# EAGLE library part DRV8706H (library pimoroni-ics)
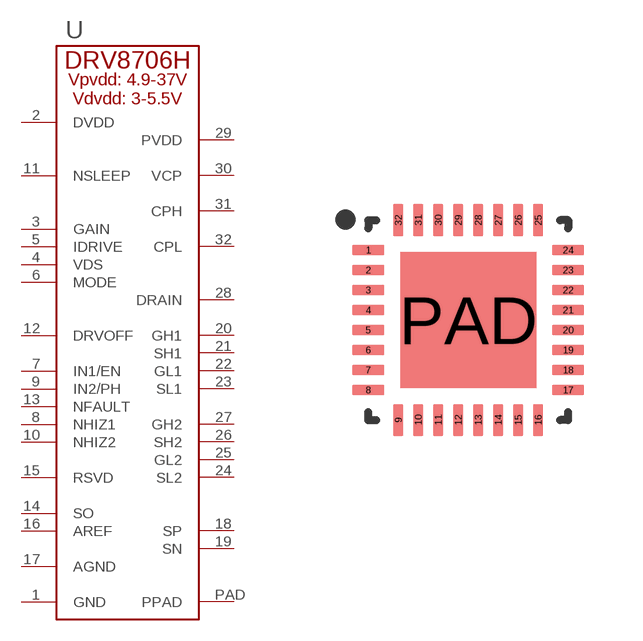
[diagram p155: symbol with the pads of QFN-32; footprint QFN-32]

Designator prefix U

## DRV8706H  [QFN-32]
1  GND
2  DVDD
3  GAIN
4  VDS
5  IDRIVE
6  MODE
7  IN1/EN
8  NHIZ1
9  IN2/PH
10  NHIZ2
11  NSLEEP
12  DRVOFF
13  NFAULT
14  SO
15  RSVD
16  AREF
17  AGND
18  SP
19  SN
20  GH1
21  SH1
22  GL1
23  SL1
24  SL2
25  GL2
26  SH2
27  GH2
28  DRAIN
29  PVDD
30  VCP
31  CPH
32  CPL
PAD  PPAD

## Footprint QFN-32 (pad centres in mm)
smd 0.8 x 0.25: 1 -2.5,1.75; 2 -2.5,1.25; 3 -2.5,0.75; 4 -2.5,0.25; 5 -2.5,-0.25; 6 -2.5,-0.75; 7 -2.5,-1.25; 8 -2.5,-1.75; 17 2.5,-1.75; 18 2.5,-1.25; 19 2.5,-0.75; 20 2.5,-0.25; 21 2.5,0.25; 22 2.5,0.75; 23 2.5,1.25; 24 2.5,1.75
smd 0.25 x 0.8: 9 -1.75,-2.5; 10 -1.25,-2.5; 11 -0.75,-2.5; 12 -0.25,-2.5; 13 0.25,-2.5; 14 0.75,-2.5; 15 1.25,-2.5; 16 1.75,-2.5; 25 1.75,2.5; 26 1.25,2.5; 27 0.75,2.5; 28 0.25,2.5; 29 -0.25,2.5; 30 -0.75,2.5; 31 -1.25,2.5; 32 -1.75,2.5
smd 3.4 x 3.4: PAD 0,0